# Altium schematic symbol library SCH - OPAMP - STM LMX358IQ2T.SCHLIB: 1 symbol
Pins are listed as number, name and electrical type; pins without a type are passive.

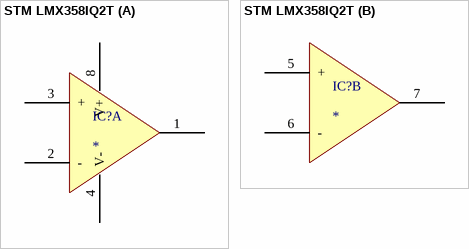
[diagram p0: symbol STM LMX358IQ2T]

## STM LMX358IQ2T
designator IC?
part A pins: 1 OUTA, 2 -, 3 +, 4 V-, 8 V+
part B pins: 5 +, 6 -, 7 OUTB